# Altium footprint library PCB_2023-03-16.PcbLib: 20 footprints (part 2 of 2)
Each footprint in its own frame and in the unit in brackets; x right, y up, seen from the top. Pads: shape width x height; smd on the part's side, far side on the other; paste and mask are expansions set on the pad; w line width, h text height; cw(c..) or ccw(c..) is an arc to the next point about the centre after c.
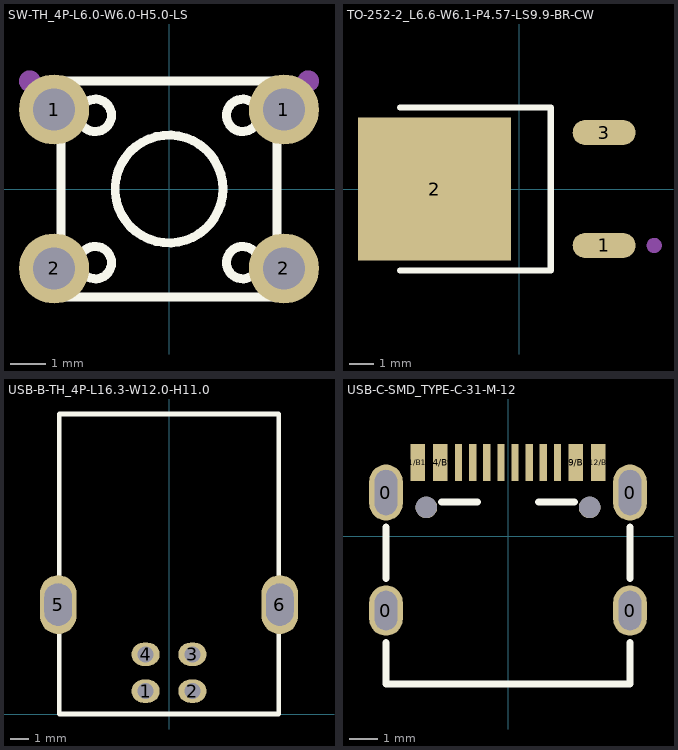
[diagram p1: the footprints below, top view; thin cyan lines are the x and y axes]

## SW-TH_4P-L6.0-W6.0-H5.0-LS [mil]
pads (4):
  round 78 hole 47 paste+0 mask+4: 1(-128.01,88.5) 1(128,88.5) 2(-128,-88.5) 2(128,-88.5)
Top Overlay:
  circle w10: c-82,82 r18
  circle w10: c-82,-82 r18
  circle w10: c82,-82 r18
  circle w10: c82,82 r18
  circle w10: c0,0 r60
  lines w10: -120,-120 -120,120 120,120 120,-120 -120,-120
Mechanical 15:
  circle w12: c-155,120 r6
  circle w12: c155,120 r6

## TO-252-2_L6.6-W6.1-P4.57-LS9.9-BR-CW [mil]
pads (3):
  oval 100x40 smd paste+0 mask+4: 1(135,-90) 3(135,90)
  rect 244x228 smd paste+0 mask+4: 2(-135,0)
Top Overlay:
  lines w10: -190,-130 50,-130 50,130 -190,130
Mechanical 15:
  circle w12: c215,-90 r6

## USB-B-TH_4P-L16.3-W12.0-H11.0 [mil]
pads (6):
  oval 60x50 hole 34 paste+0 mask+4: 1(-50,49) 2(50,49) 3(50,127.5) 4(-50,127.5)
  oval 78x126 hole 59 slot 90.5 at 90 deg paste+0 mask+4: 5(-237,234) 6(237,234)
Top Overlay:
  lines w10: -235,196.85 -235,122.05 -235,0 235,0 235,196.85 ; -235,275 -235,641.73 235,641.73 235,280

## USB-C-SMD_TYPE-C-31-M-12 [mil]
pads (18):
  oval 47x70 hole 31.5 slot 55 at 90 deg paste+0 mask+4: 0(-170.08,-103.31) 0(170.08,-103.31)
  oval 47x78 hole 31.5 slot 63 at 90 deg paste+0 mask+4: 0(-170.08,61.25) 0(170.08,61.25)
  rect 20x52 smd paste+0 mask+2: A1/B12(-126,103.01) A4/B9(-94.5,103.01) A9/B4(94.5,103) A12/B1(126,103.01)
  rect 10x52 smd paste+0 mask+2: A5(-49.21,103.01) A6(-9.84,103.01) A7(9.84,103.01) A8(49.2,103.01) B5(68.9,103.01) B6(29.53,103.01) B7(-29.53,103.01) B8(-68.9,103.01)
  round 30 hole 30 unplated paste+0: ""(-113.78,40.39) ""(113.78,40.39)
Top Overlay:
  lines w10: -170.08,-147.85 -170.08,-205.78 170.08,-205.78 170.08,-147.85 ; -170.08,-58.78 -170.08,12.79 ; -92.53,48.06 -42.53,48.06 ; 42.53,48.06 92.53,48.06 ; 170.08,-58.78 170.08,12.79